# EAGLE library part MAX9918 (library hotaru)
MAX9918 - current-sense amplifier datasheet <https://datasheets.maximintegrated.com/en/ds/MAX9918-MAX9920.pdf>
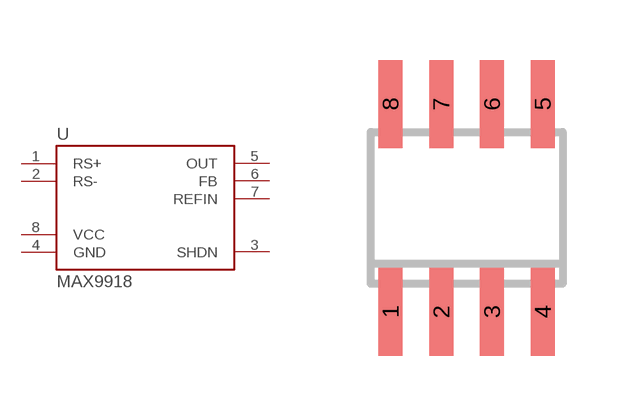
[diagram p1: symbol with the pads of SOIC8; footprint SOIC8]

Designator prefix -

## MAX9918  [SOIC8]
1  RS+
2  RS-
3  SHDN
4  GND  pwr
5  OUT
6  FB
7  REFIN
8  VCC  pwr

## Footprint SOIC8 (pad centres in mm)
smd 0.6 x 2.2: 1 -1.905,-2.6; 2 -0.635,-2.6; 3 0.635,-2.6; 4 1.905,-2.6; 5 1.905,2.6; 6 0.635,2.6; 7 -0.635,2.6; 8 -1.905,2.6